# EAGLE library part BQ24610 (library graftel-internal-ic)
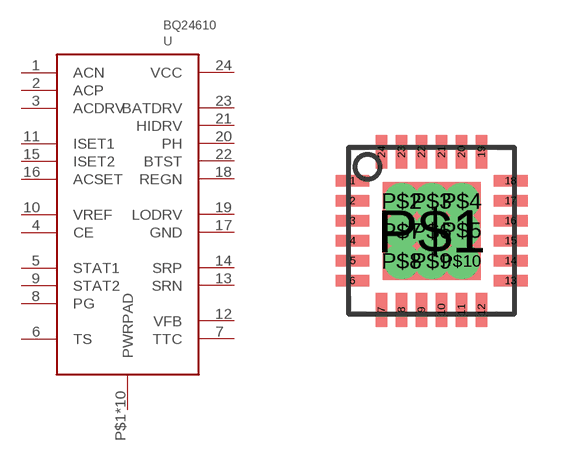
[diagram p26: symbol with the pads of VQFN-24; footprint VQFN-24]

Designator prefix U

## BQ24610  [VQFN-24]
1  ACN
2  ACP
3  ACDRV
4  CE
5  STAT1
6  TS
7  TTC
8  PG
9  STAT2
10  VREF
11  ISET1
12  VFB
13  SRN
14  SRP
15  ISET2
16  ACSET
17  GND
18  REGN
19  LODRV
20  PH
21  HIDRV
22  BTST
23  BATDRV
24  VCC
P$1  PWRPAD
P$2  PWRPAD
P$3  PWRPAD
P$4  PWRPAD
P$5  PWRPAD
P$6  PWRPAD
P$7  PWRPAD
P$8  PWRPAD
P$9  PWRPAD
P$10  PWRPAD

## Footprint VQFN-24 (pad centres in mm)
smd 0.85 x 0.28: 1 -1.975,1.25; 2 -1.975,0.75; 3 -1.975,0.25; 4 -1.975,-0.25; 5 -1.975,-0.75; 6 -1.975,-1.25; 13 1.975,-1.25; 14 1.975,-0.75; 15 1.975,-0.25; 16 1.975,0.25; 17 1.975,0.75; 18 1.975,1.25
smd 0.28 x 0.85: 7 -1.25,-1.975; 8 -0.75,-1.975; 9 -0.25,-1.975; 10 0.25,-1.975; 11 0.75,-1.975; 12 1.25,-1.975; 19 1.25,1.975; 20 0.75,1.975; 21 0.25,1.975; 22 -0.25,1.975; 23 -0.75,1.975; 24 -1.25,1.975
smd 2.45 x 2.45: P$1 0,0
drill 0.305 pad 0.9: P$2 -0.75,0.75; P$3 0,0.75; P$4 0.75,0.75; P$5 0.75,0.02; P$6 0,0; P$7 -0.75,0; P$8 -0.75,-0.75; P$9 0,-0.75; P$10 0.75,-0.75